# EAGLE library part FCI_FPC_REBEL_SFW6R-1 (library laforge)
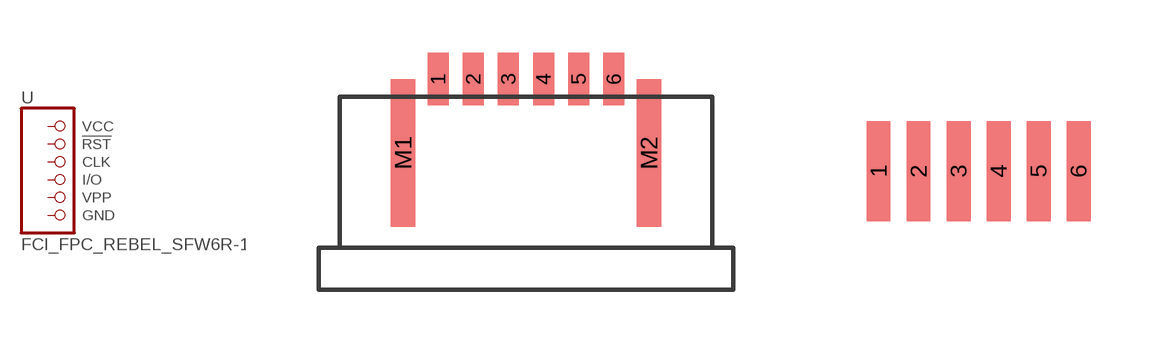
[diagram p14: symbol with the pads of FPC_REBEL_SFW6R-1ST; footprints FPC_REBEL_SFW6R-1ST, FPC_SODLER_6]

Designator prefix -

## FCI_FPC_REBEL_SFW6R-1 (OC_DIGIKEY: 609-1889-1-ND)  [FPC_REBEL_SFW6R-1ST]
1  VCC  pwr
2  !RST  out
3  CLK  out
4  I/O
5  VPP  pwr
6  GND  pas

## FCI_FPC_REBEL_SFW6R-1SOLDER  [FPC_SODLER_6]
1  !RST  out
2  CLK  out
3  GND  pas
4  I/O
5  VCC  pwr
6  VPP  pwr

## Footprint FPC_REBEL_SFW6R-1ST (pad centres in mm)
FCI FPC connector SFW6R-1STE1LF according to Drawing JSA 96336 / revision D, Nov 1, 2009 used in Rebelsim FPC
smd 0.6 x 1.5: 1 -2.5,0.5; 2 -1.5,0.5; 3 -0.5,0.5; 4 0.5,0.5; 5 1.5,0.5; 6 2.5,0.5
smd 0.7 x 4.2: M1 -3.5,-1.6; M2 3.5,-1.6

## Footprint FPC_SODLER_6 (pad centres in mm)
smd 0.6 x 2.5: 1 -2.5,0.5; 2 -1.5,0.5; 3 -0.5,0.5; 4 0.5,0.5; 5 1.5,0.5; 6 2.5,0.5